# Altium footprint library RC0805FR-071K5L.PcbLib: 3 footprints
Each footprint in its own frame and in the unit in brackets; x right, y up, seen from the top. Pads: shape width x height; smd on the part's side, far side on the other; paste and mask are expansions set on the pad; w line width, h text height; cw(c..) or ccw(c..) is an arc to the next point about the centre after c.
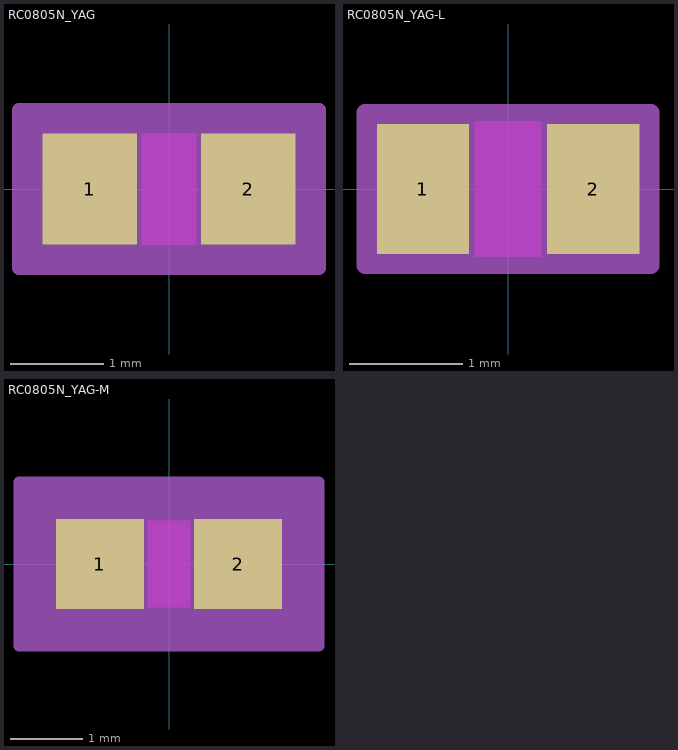
[diagram p0: the footprints below, top view; thin cyan lines are the x and y axes]

## RC0805N_YAG [mil]
pads (2):
  rect 40x47 smd paste+0 mask+0: 1(-33.5,0) 2(33.5,0)
Top Layer keep-out:
  region: -11.5,-21.5 -11.5,21.5 11.5,21.5 11.5,-21.5
Top Overlay:
  text ".Designator" at -137.5,-25 h50
Keep-Out Layer:
  region: -11.5,-23.5 -11.5,23.5 11.5,23.5 11.5,-23.5
Mechanical 13:
  lines w1: -39.5,-23.5 -39.5,23.5 ; -39.5,-23.5 -13.5,-23.5 -13.5,23.5 -39.5,23.5 ; -39.5,-23.5 39.5,-23.5 ; -39.5,-23.5 -39.5,23.5 ; -39.5,23.5 39.5,23.5 ; 39.5,-23.5 13.5,-23.5 13.5,23.5 39.5,23.5 ; 39.5,-23.5 39.5,23.5 ; 39.5,-23.5 39.5,23.5
  text ".Designator" at -137.5,-25 h50
Mechanical 15:
  region: 63.5,-33.5 -63.5,-33.5 -63.5,33.5 63.5,33.5
  lines w6: -63.5,-33.5 -63.5,33.5 63.5,33.5 63.5,-33.5 -63.5,-33.5
3D body "RC0805N_YAG.step": height 27.99, standoff 0, extent -39.49,-23.5 39.49,23.5

## RC0805N_YAG-L [mil]
pads (2):
  rect 32x45 smd paste+0 mask+0: 1(-29.5,0) 2(29.5,0)
Top Layer keep-out:
  region: -11.5,-21.5 -11.5,21.5 11.5,21.5 11.5,-21.5
Top Overlay:
  text ".Designator" at -137.5,-25 h50
Keep-Out Layer:
  region: -11.5,-23.5 -11.5,23.5 11.5,23.5 11.5,-23.5
Mechanical 13:
  lines w1: -39.5,-23.5 -39.5,23.5 ; -39.5,-23.5 -13.5,-23.5 -13.5,23.5 -39.5,23.5 ; -39.5,-23.5 39.5,-23.5 ; -39.5,-23.5 -39.5,23.5 ; -39.5,23.5 39.5,23.5 ; 39.5,-23.5 13.5,-23.5 13.5,23.5 39.5,23.5 ; 39.5,-23.5 39.5,23.5 ; 39.5,-23.5 39.5,23.5
  text ".Designator" at -137.5,-25 h50
Mechanical 15:
  region: 49.5,-26.5 -49.5,-26.5 -49.5,26.5 49.5,26.5
  lines w6: -49.5,-26.5 -49.5,26.5 49.5,26.5 49.5,-26.5 -49.5,-26.5
3D body "RC0805N_YAG.step": height 27.99, standoff 0, extent -39.49,-23.5 39.49,23.5

## RC0805N_YAG-M [mil]
pads (2):
  rect 48x49 smd paste+0 mask+0: 1(-37.5,0) 2(37.5,0)
Top Layer keep-out:
  region: -11.5,-21.5 -11.5,21.5 11.5,21.5 11.5,-21.5
Top Overlay:
  text ".Designator" at -137.5,-25 h50
Keep-Out Layer:
  region: -11.5,-23.5 -11.5,23.5 11.5,23.5 11.5,-23.5
Mechanical 13:
  lines w1: -39.5,-23.5 -39.5,23.5 ; -39.5,-23.5 -13.5,-23.5 -13.5,23.5 -39.5,23.5 ; -39.5,-23.5 39.5,-23.5 ; -39.5,-23.5 -39.5,23.5 ; -39.5,23.5 39.5,23.5 ; 39.5,-23.5 13.5,-23.5 13.5,23.5 39.5,23.5 ; 39.5,-23.5 39.5,23.5 ; 39.5,-23.5 39.5,23.5
  text ".Designator" at -137.5,-25 h50
Mechanical 15:
  region: 81.5,-44.5 -81.5,-44.5 -81.5,44.5 81.5,44.5
  lines w6: -81.5,-44.5 -81.5,44.5 81.5,44.5 81.5,-44.5 -81.5,-44.5
3D body "RC0805N_YAG.step": height 27.99, standoff 0, extent -39.49,-23.5 39.49,23.5